# Altium schematic symbol library SMCJ6.5CA.SchLib: 1 symbol
Pins are listed as number, name and electrical type; pins without a type are passive.

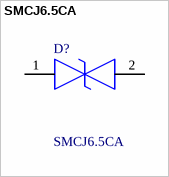
[diagram p0: symbol SMCJ6.5CA]

## SMCJ6.5CA
designator D?
ESD Suppressors / TVS Diodes 1.5kW 6.5V 5% Bi-Directional; Manufacturer_Name: LITTELFUSE; Geometry.Height: 2.62mm; Mouser Part Number: 576-SMCJ6.5CA; Mouser Price/Stock: https://www.mouser.co.uk/ProductDetail/Littelfuse/SMCJ6.5CA?qs=zHiv0nsVGmqgVklgFl2cVA%3D%3D; Manufacturer_Part_Number: SMCJ6.5CA; Datasheet Link: https://www.littelfuse.com/products/tvs-diodes/surface-mount/~/media/electronics/datasheets/tvs_diodes/littelfuse_tvs_diode_smcj_datasheet.pdf.pdf
footprint DIONM7959X262N
pins: 1, 2